# Altium footprint library mb1246b.brd.PcbLib: 73 footprints (part 4 of 6)
Each footprint in its own frame and in the unit in brackets; x right, y up, seen from the top. Pads: shape width x height; smd on the part's side, far side on the other; paste and mask are expansions set on the pad; w line width, h text height; cw(c..) or ccw(c..) is an arc to the next point about the centre after c.
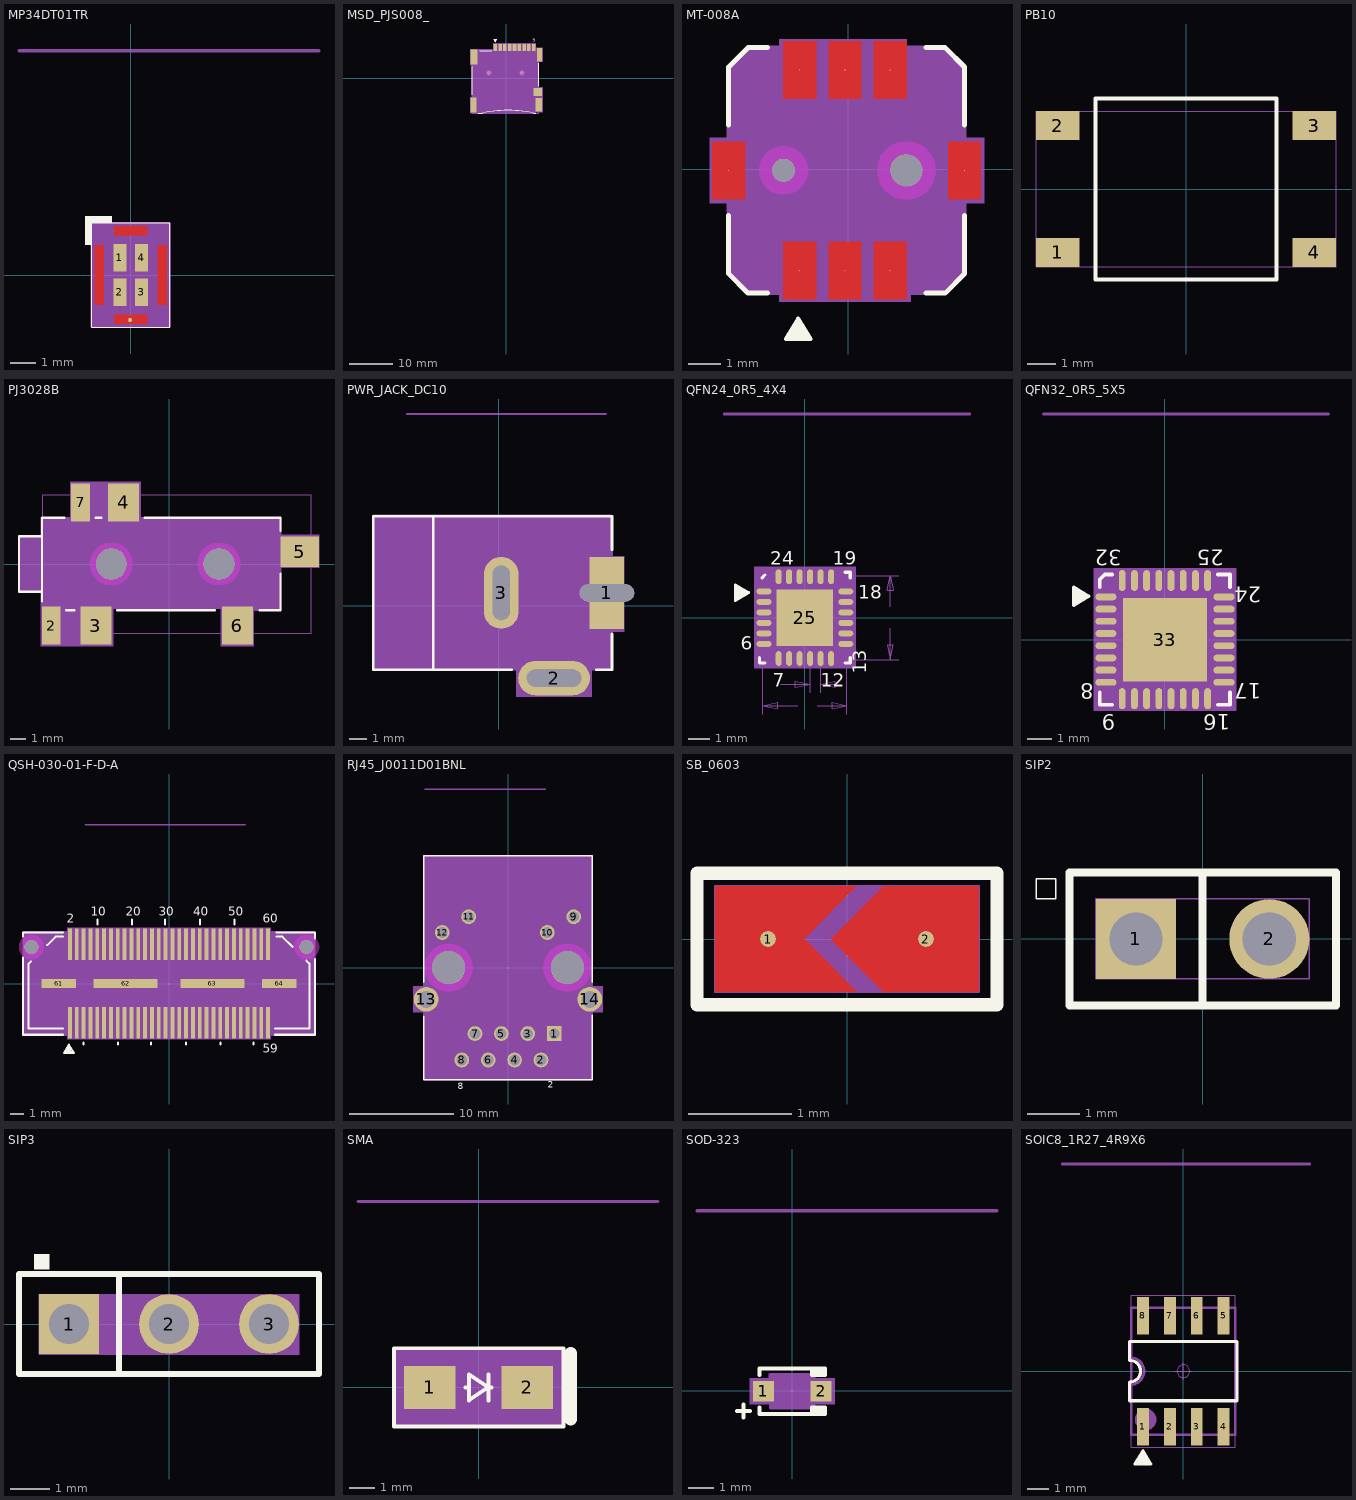
[diagram p3: the footprints below, top view; thin cyan lines are the x and y axes]

## MP34DT01TR [mil] "MP34DT01TR"
pads (5):
  rect 20x42 smd: 1(-16.97,26.73) 2(-16.97,-26.41) 3(16.49,-26.41) 4(16.49,26.73)
  round 6 smd: 5(-1.24,-68.84)
Top Layer:
  region: 40.87,45.44 40.87,-45.12 54.65,-45.12 54.65,45.44
  region: -25.83,-60.95 -25.83,-74.73 25.35,-74.73 25.35,-60.95
  region: -25.83,75.05 -25.83,61.27 25.35,61.27 25.35,75.05
  region: -55.13,45.44 -55.13,-45.12 -41.35,-45.12 -41.35,45.44
Top Overlay:
  dashed: -29.24,80.16 -29.24,90.16 -70.24,90.16 -70.24,46.16 -60.24,46.16 -60.24,80.16
  lines w1: -60.24,-79.84 59.76,-79.84 59.76,80.16 -60.24,80.16 -60.24,-79.84
  text ".Designator" at 158.76,-159.61 h35
Top Paste:
  dashed: -25.83,61.27 25.35,61.27 25.35,75.05 -25.83,75.05
  dashed: -55.13,-45.12 -41.35,-45.12 -41.35,45.44 -55.13,45.44
  dashed: 40.87,-45.12 54.65,-45.12 54.65,45.44 40.87,45.44
  dashed: -25.83,-74.73 25.35,-74.73 25.35,-60.95 -25.83,-60.95
Top Solder:
  dashed: -25.83,-74.73 25.35,-74.73 25.35,-60.95 -25.83,-60.95
  dashed: -55.13,-45.12 -41.35,-45.12 -41.35,45.44 -55.13,45.44
  dashed: 40.87,-45.12 54.65,-45.12 54.65,45.44 40.87,45.44
  dashed: -25.83,61.27 25.35,61.27 25.35,75.05 -25.83,75.05
Top 3D Body:
  region: 58.65,-78.92 58.65,78.92 -58.66,78.92 -58.66,-78.92
Top Component Center:
  circle w1: c-0.24,0.16 r11.81
  lines w1: -15.99,0.16 15.51,0.16 ; -0.24,-15.59 -0.24,15.91
Top Assembly:
  circle w20: c-46.24,67.16 r10
  lines w5: -59.3,-78.58 58.82,-78.58 58.82,78.9 -59.3,78.9 -59.3,-78.58
  text "MP34DT01TR" at 25.9,-264.42 h30
Mechanical42:
  text "4" at 21.8,8.8 h16
  text "3" at 21.8,-44.35 h16
  text "2" at -11.67,-44.35 h16
  text "1" at -11.67,8.8 h16
  text "5" at -1.24,-75.24 h16
Mechanical44:
  lines w5: -171.66,343.85 288.34,343.85
  text "Sofer Lib Information" at -171.66,353.85 h25
  text "Ref PN: MP34DT01TR" at -141.66,303.85 h25
  text "Creat : Yuki" at -141.66,263.85 h25
  text "Date  : 2012-07-31" at -141.66,223.85 h25
  text "Rev   : A1" at -141.66,183.85 h25
  text "Remark: D031-006A1" at -141.66,143.85 h25
Mechanical45:
  text "MP34DT01TR" at 20.47,-269.86 h30
Mechanical46:
  text "NO" at 7.68,-42.13 h35
3D body: height 150, standoff 0, extent -58.66,-78.92 58.65,78.92

## MSD_PJS008_ [mil] "MSD_PJS008_"
pads (16):
  rect 32x63 smd: 1(-99.43,278.35) 2(-56.12,278.35) 3(-12.81,278.35) 4(30.49,278.35) 5(73.8,278.35) 6(117.11,278.35) 7(160.41,278.35) 8(203.72,278.35)
  rect 33x63 smd: 9(249,278.35)
  rect 77x75 smd: 10(284.43,-123.23)
  rect 60x121 smd: 11(293.29,-239.37)
  rect 55x135 smd: 12(-295.43,-239.65)
  rect 63x138 smd: 13(-291.36,193.7)
  rect 47x122 smd: 14(299.19,213.39)
  round 28 hole 28 unplated: ""(-157.5,50) ""(139.74,50)
Top Overlay:
  lines w5: -99.5,341.5 -104.5,341.5 -100.5,335.5 -94.5,344.5 -105.5,344.5 -107.5,347.5 -92.5,347.5 -90.5,351.5 -110.5,351.5 -110.5,355.5 -115.5,355.5 ; -115.5,355.5 -100.5,330.5 -85.5,355.5 -115.5,355.5
  lines w6: -307.5,-150 -307.5,110 ; -252.5,-315 -212.5,-315 cw(c15,-1322.5) 242.5,-315 267.5,-315 ; -242.5,249.8 -132.7,249.8 ; 292.5,-70 292.5,135
  text "9" at 237.5,330 h25
Top 3D Body:
  region: -327.5,-315 267.5,-315 267.5,-305 327.5,-305 327.5,-80 292.5,-80 292.5,150 327.5,150 327.5,275 267.5,275 267.5,315 -117.5,315 -117.5,265 -327.5,265 -327.5,120 -307.5,120 -307.5,-170 -327.5,-170
Top Component Center:
  circle w1: c-157.5,50 r11.81
  lines w1: -173.25,50 -141.75,50 ; -157.5,34.25 -157.5,65.75
Multi-Layer keep-out:
  region: 139.74,20.75 147.31,21.75 154.37,24.67 160.42,29.32 165.07,35.37 167.99,42.43 168.99,50 167.99,57.57 165.07,64.63 160.42,70.68 154.37,75.33 147.31,78.25 139.74,79.25 132.17,78.25 125.11,75.33 119.06,70.68 114.41,64.63 111.49,57.57 110.49,50 111.49,42.43 114.41,35.37 119.06,29.32 125.11,24.67 132.17,21.75
  region: -157.5,20.75 -149.93,21.75 -142.87,24.67 -136.82,29.32 -132.17,35.37 -129.25,42.43 -128.25,50 -129.25,57.57 -132.17,64.63 -136.82,70.68 -142.87,75.33 -149.93,78.25 -157.5,79.25 -165.07,78.25 -172.13,75.33 -178.18,70.68 -182.83,64.63 -185.75,57.57 -186.75,50 -185.75,42.43 -182.83,35.37 -178.18,29.32 -172.13,24.67 -165.07,21.75
Top Assembly:
  lines w1: -307.5,-315 -307.5,250 292.5,250 292.5,-315 -307.5,-315
  text ".Designator" at 2.5,24 h40
Mechanical42:
  text "9" at 249,284.75 h16
  text "6" at 117.11,284.75 h16
  text "14" at 299.19,226.19 h16
  text "11" at 293.29,-226.57 h16
  text "13" at -291.36,206.5 h16
  text "12" at -295.43,-226.85 h16
  text "4" at 30.49,284.75 h16
  text "5" at 73.8,284.75 h16
  text "3" at -12.81,284.75 h16
  text "8" at 203.72,284.75 h16
  text "10" at 284.43,-110.43 h16
  text "1" at -99.43,284.75 h16
  text "2" at -56.12,284.75 h16
  text "7" at 160.41,284.75 h16
3D body: height 150, standoff 0, extent -327.5,-315 327.5,315

## MT-008A [mil] "MT-008A"
pads (10):
  oct 1x1 smd rot 45: 1(-58.87,-123.3) 2(-3.75,-123.29) 3(51.37,-123.3) 4(51.37,120.81) 5(-3.75,120.8) 6(-58.87,120.81) 7(-145.48,-1.24) 8(141.92,-1.24)
  round 28 hole 28 unplated: ""(-78.55,-1.24)
  round 39 hole 39 unplated: ""(71.05,-1.24)
Top Layer:
  region: 71.37,155.81 31.37,155.81 31.37,85.81 71.37,85.81
  region: 161.91,33.76 121.92,33.76 121.92,-36.25 161.91,-36.25
  region: 16.25,155.8 -23.74,155.8 -23.74,85.8 16.25,85.8
  region: -38.87,155.81 -78.86,155.81 -78.86,85.81 -38.87,85.81
  region: 71.37,-88.3 31.37,-88.3 31.37,-158.3 71.37,-158.3
  region: 16.25,-88.29 -23.74,-88.29 -23.74,-158.29 16.25,-158.29
  region: -125.48,33.76 -165.48,33.76 -165.48,-36.25 -125.48,-36.25
  region: -38.87,-88.3 -78.86,-88.3 -78.86,-158.3 -38.87,-158.3
Top Overlay:
  lines w5: -61.74,-192.74 -56.75,-192.74 -60.75,-186.74 -66.75,-195.74 -55.75,-195.74 -53.75,-198.75 -68.75,-198.75 -70.75,-202.75 -50.75,-202.75 -50.74,-206.74 -45.75,-206.74 ; -45.75,-206.74 -60.75,-181.75 -75.75,-206.74 -45.75,-206.74
  lines w6: -145.48,-56.24 -145.48,-127.22 -121.86,-150.85 -98.23,-150.85 ; -145.48,53.75 -145.48,124.73 -121.86,148.37 -98.23,148.37 ; 94.68,-150.85 118.3,-150.85 141.92,-127.23 141.92,-56.25 ; 94.68,148.37 118.3,148.37 141.92,124.74 141.92,101.12 141.92,53.76
  text ".Designator" at -115.41,-233.56 h35
Top Paste:
  region: 71.37,155.81 31.37,155.81 31.37,85.81 71.37,85.81
  region: 161.91,33.76 121.92,33.76 121.92,-36.25 161.91,-36.25
  region: 16.25,155.8 -23.74,155.8 -23.74,85.8 16.25,85.8
  region: -38.87,155.81 -78.86,155.81 -78.86,85.81 -38.87,85.81
  region: 71.37,-88.3 31.37,-88.3 31.37,-158.3 71.37,-158.3
  region: 16.25,-88.29 -23.74,-88.29 -23.74,-158.29 16.25,-158.29
  region: -125.48,33.76 -165.48,33.76 -165.48,-36.25 -125.48,-36.25
  region: -38.87,-88.3 -78.86,-88.3 -78.86,-158.3 -38.87,-158.3
Top Solder:
  region: 74.37,158.81 28.38,158.81 28.38,82.81 74.37,82.81
  region: 164.91,36.76 118.92,36.76 118.92,-39.24 164.91,-39.24
  region: 19.25,158.8 -26.74,158.8 -26.74,82.8 19.25,82.8
  region: -35.87,158.81 -81.86,158.81 -81.86,82.81 -35.87,82.81
  region: 74.37,-85.3 28.38,-85.3 28.38,-161.3 74.37,-161.3
  region: 19.25,-85.29 -26.74,-85.29 -26.74,-161.29 19.25,-161.29
  region: -122.48,36.76 -168.48,36.76 -168.48,-39.24 -122.48,-39.24
  region: -35.87,-85.3 -81.86,-85.3 -81.86,-161.3 -35.87,-161.3
Top 3D Body:
  region: -83.75,-161.25 76.25,-161.25 76.25,-151.24 116.26,-151.24 141.25,-126.25 141.25,-41.24 166.25,-41.25 166.25,38.76 141.25,38.75 141.25,128.75 121.25,148.75 71.26,148.75 71.26,158.75 -83.75,158.76 -83.74,148.75 -118.74,148.75 -143.75,123.75 -143.75,38.76 -168.75,38.76 -168.75,-41.25 -143.75,-41.25 -143.75,-126.24 -118.74,-151.24 -83.74,-151.24
Multi-Layer keep-out:
  region: -57.49,19.81 -63.66,24.54 -70.84,27.52 -78.55,28.53 -86.26,27.52 -93.44,24.54 -99.61,19.81 -104.34,13.64 -107.31,6.46 -108.33,-1.24 -107.31,-8.95 -104.34,-16.13 -99.61,-22.3 -93.44,-27.03 -86.26,-30.01 -78.55,-31.02 -70.84,-30.01 -63.66,-27.03 -57.49,-22.3 -52.76,-16.13 -49.79,-8.95 -48.77,-1.24 -49.79,6.46 -52.76,13.64
  region: 96.33,24.03 88.93,29.71 80.31,33.28 71.06,34.5 61.8,33.28 53.18,29.71 45.78,24.03 40.1,16.63 36.53,8.01 35.31,-1.24 36.53,-10.5 40.1,-19.12 45.78,-26.52 53.18,-32.2 61.8,-35.77 71.06,-36.99 80.31,-35.77 88.93,-32.2 96.33,-26.52 102.01,-19.12 105.58,-10.5 106.8,-1.24 105.58,8.01 102.01,16.63
Top Assembly:
  circle w20: c-58.75,-121.24 r10
  lines w5: -145.48,53.75 -145.48,124.73 ; -98.23,148.37 -121.86,148.37 ; 94.68,-150.85 118.3,-150.85 ; -145.48,124.73 -145.48,-127.22 -121.86,-150.85 118.3,-150.85 ; -145.48,124.73 -121.86,148.37 ; -121.86,148.37 118.3,148.37 141.92,124.74 141.92,101.12 141.92,-127.23 118.3,-150.85
Mechanical42:
  text "7" at -152.16,-7.93 h23.62
  text "5" at -10.43,114.12 h23.62
  text "8" at 135.24,-7.93 h23.62
  text "2" at -10.43,-129.97 h23.62
  text "3" at 44.69,-129.98 h23.62
  text "1" at -65.55,-129.98 h23.62
  text "4" at 44.69,114.13 h23.62
  text "6" at -65.55,114.13 h23.62
3D body: height 150, standoff 0, extent -168.75,-161.25 166.25,158.76

## PB10 [mil] "PB10"
pads (4):
  rect 60x40 smd: 1(-177.17,-87.5) 2(-177.17,87.5) 3(177.17,87.5) 4(177.17,-87.5)
Top Overlay:
  lines w6: -125,-125 125,-125 125,125 -125,125 -125,-125
Top 3D Body:
  lines w1: -207.17,-107.5 -207.17,107.5 207.17,107.5 207.17,-107.5 -207.17,-107.5
Top Assembly:
  lines w1: -207.17,-107.5 -207.17,107.5 207.17,107.5 207.17,-107.5 -207.17,-107.5
  text ".Designator" at -207.17,186 h60
Mechanical42:
  text "3" at 170.77,87.5 h16
  text "2" at -183.57,87.5 h16
  text "4" at 170.77,-87.5 h16
  text "1" at -183.57,-87.5 h16

## PJ3028B [mil] "PJ3028B"
pads (8):
  rect 48x98 smd: 2(-301.79,-157.48) 7(-226.99,157.48)
  rect 79x98 smd: 3(-187.62,-157.48) 4(-116.75,157.48) 6(174.58,-157.48)
  rect 98x79 smd: 5(334.03,31.5)
  round 79 hole 79 unplated: ""(-148.25,0) ""(127.34,0)
Top Overlay:
  lines w6: -325.42,-95 -325.42,118.11 -268.25,118.11 ; -325.42,-70.87 -384.47,-70.87 -384.47,70.87 -325.42,70.87 ; -263.25,-118.11 -243.25,-118.11 ; -188.25,118.11 -173.25,118.11 ; -133.25,-118.11 116.75,-118.11 ; -63.25,118.11 284.82,118.11 284.82,85 ; 231.75,-118.11 284.82,-118.11 284.82,-25
Top 3D Body:
  region: -328.25,-210 -143.25,-210 -143.25,-115 131.75,-115 131.75,-210 216.75,-210 216.75,-120 286.75,-120 286.75,-10 383.25,-10 383.25,75 286.75,75 286.75,120 -73.25,120 -73.25,210 -253.25,210 -253.25,120 -328.25,120 -328.25,70 -383.25,70 -383.25,-70 -328.25,-70
Top Component Center:
  circle w1: c-148.25,0 r11.81
  lines w1: -164,0 -132.5,0 ; -148.25,-15.75 -148.25,15.75
Multi-Layer keep-out:
  region: 72.54,0 74.41,-14.18 79.88,-27.4 88.59,-38.75 99.94,-47.46 113.16,-52.93 127.34,-54.8 141.52,-52.93 154.74,-47.46 166.09,-38.75 174.8,-27.4 180.27,-14.18 182.14,0 180.27,14.18 174.8,27.4 166.09,38.75 154.74,47.46 141.52,52.93 127.34,54.8 113.16,52.93 99.94,47.46 88.59,38.75 79.88,27.4 74.41,14.18
  region: -203.05,0 -201.18,-14.18 -195.71,-27.4 -187,-38.75 -175.65,-47.46 -162.43,-52.93 -148.25,-54.8 -134.07,-52.93 -120.85,-47.46 -109.5,-38.75 -100.79,-27.4 -95.32,-14.18 -93.45,0 -95.32,14.18 -100.79,27.4 -109.5,38.75 -120.85,47.46 -134.07,52.93 -148.25,54.8 -162.43,52.93 -175.65,47.46 -187,38.75 -195.71,27.4 -201.18,14.18
Top Assembly:
  lines w1: -323.25,-177.17 -323.25,177.17 363.56,177.17 363.56,-177.17 -323.25,-177.17
  text ".Designator" at 55.75,-10 h40
Mechanical42:
  text "3" at -181.22,-157.48 h16
  text "5" at 340.43,31.5 h16
  text "7" at -220.59,157.48 h16
  text "4" at -110.35,157.48 h16
  text "6" at 180.98,-157.48 h16
  text "2" at -295.39,-157.48 h16
3D body: height 150, standoff 0, extent -383.25,-210 383.25,210

## PWR_JACK_DC10 [mil] "PWR_JACK_DC10"
pads (3):
  rect 80x166 / inner oval 80x166 / far side rect 80x166 hole 40 slot 126 at 0 deg: 1(250,30)
  oval 166x80 hole 40 slot 126 at 0 deg: 2(127.95,-166.85)
  oval 80x166 hole 126 slot 40 at 0 deg: 3(5.91,30)
Top Overlay:
  lines w6: -151.57,-145 -151.57,205 ; 30,-147.17 -289.37,-147.17 -289.37,207.17 261.81,207.17 261.81,130 ; 225,-147.17 261.81,-147.17 261.81,-65
Top 3D Body:
  region: 260,210 -290,210 -290,-145 40,-145 40,-210 215,-210 215,-145 260,-145 260,-60 290,-60 290,115 260,115
Top Component Center:
  circle w1: c250,30 r11.81
  lines w1: 234.25,30 265.75,30 ; 250,14.25 250,45.75
Top Assembly:
  circle w20: c250,30 r10
  lines w5: -289.37,-147.17 -289.37,207.17 261.81,207.17 261.81,-147.17 -289.37,-147.17
  text ".Designator" at 66,6.67 h40
  text "DC-10B" at -182,-260 h30
Mechanical42:
  text "3" at -0.49,30 h16
  text "2" at 121.55,-166.85 h16
  text "1" at 243.6,30 h16
Mechanical44:
  lines w5: -211.75,443.26 248.25,443.26
  text "Sofer Lib Information" at -211.75,453.26 h25
  text "Ref PN: DC10" at -181.75,403.26 h25
  text "Creat : Yuki" at -181.75,363.26 h25
  text "Date  : 2011-10-20" at -181.75,323.26 h25
  text "Rev   : A1" at -181.75,283.26 h25
  text "Remark: D031-005A1" at -179,246.67 h25
Mechanical45:
  text "PWR_JACK_DC10" at -241,-270 h30
3D body: height 150, standoff 0, extent -290,-210 290,210

## QFN24_0R5_4X4 [mil] "QFN24_0R5_4X4"
pads (25):
  oval 28x11 smd: 1(-76.77,49.21) 2(-76.77,29.53) 3(-76.77,9.84) 4(-76.77,-9.84) 5(-76.77,-29.53) 6(-76.77,-49.21) 13(76.77,-49.21) 14(76.77,-29.53) 15(76.77,-9.84) 16(76.77,9.84) 17(76.77,29.53) 18(76.77,49.21)
  oval 11x28 smd: 7(-49.21,-76.77) 8(-29.53,-76.77) 9(-9.84,-76.77) 10(9.84,-76.77) 11(29.53,-76.77) 12(49.21,-76.77) 19(49.21,76.77) 20(29.53,76.77) 21(9.84,76.77) 22(-9.84,76.77) 23(-29.53,76.77) 24(-49.21,76.77)
  rect 106x106 smd: 25(0,0)
Top Overlay:
  lines w5: -116.5,47.99 -116.5,42.99 -110.51,47.01 -119.49,52.99 -119.49,42.01 -122.52,40 -122.52,55 -126.5,57.01 -126.5,37.01 -130.51,37.01 -130.51,32.01 ; -130.51,32.01 -130.51,62.01 -105.51,47.01 -130.51,32.01
  lines w6: -85,-75 -85,-85 -75,-85 ; -80,75 -75,80 ; 75,-85 85,-85 85,-75 ; 75,85 85,85 85,75
  text ".Designator" at -120,-127 h35
  text "24" at -65,99 h25
  text "19" at 52,99 h25
  text "18" at 100,35 h25
  text "13" at 115,-105 h25
  text "12" at 30,-130 h25
  text "7" at -60,-130 h25
  text "6" at -120,-60 h25
Top 3D Body:
  region: 95,95 95,-95 -95,-95 -95,95
Top Assembly:
  circle w20: c-55,55 r10
  lines w5: -78.74,-78.74 78.74,-78.74 78.74,78.74 -78.74,78.74 -78.74,-78.74
  text "LAN8742A-CZ-TR" at -168,-250 h30
Mechanical42:
  text "12" at 37.22,-80 h15.98
  text "11" at 17.22,-80 h15.98
  text "10" at -2.78,-80 h15.98
  text "7" at -56.39,-80 h15.98
  text "14" at 67.22,-35 h15.98
  text "4" at -81.39,-15 h15.98
  text "2" at -81.39,25 h15.98
  text "3" at -81.39,0 h15.98
  text "1" at -81.39,45 h15.98
  text "19" at 37.22,70 h15.98
  text "24" at -57.78,70 h15.98
  text "22" at -17.78,70 h15.98
  text "23" at -37.78,70 h15.98
  text "20" at 17.22,70 h15.98
  text "21" at 2.22,70 h15.98
  text "13" at 67.22,-55 h15.98
  text "5" at -81.39,-35 h15.98
  text "8" at -36.39,-80 h15.98
  text "9" at -16.39,-80 h15.98
  text "25" at -12.78,-5 h15.98
  text "6" at -86.39,-55 h15.98
  text "16" at 67.22,10 h15.98
  text "18" at 67.22,45 h15.98
  text "17" at 67.22,25 h15.98
  text "15" at 67.22,-15 h15.98
Mechanical44:
  lines w5: -151,382 309,382
  text "Sofer Lib Information" at -151,392 h25
  text "Ref PN: STMPE1600" at -121,342 h25
  text "Creat : Yuki" at -121,302 h25
  text "Date  : 2007-07-31" at -121,262 h25
  text "Rev   : A1" at -121,222 h25
  text "Remark: ***" at -121,182 h25
Mechanical45:
  text "QFN24_0R5_4X4" at -141,-245 h30
Mechanical47:
  lines w1: -78.74,-180.75 -78.74,-86.61 ; -45.28,-125 9.84,-125 ; -12.99,-165 -78.74,-165 ; 9.84,-140.75 9.84,-84.65 ; 22.99,-165 78.74,-165 ; 29.53,-140.75 29.53,-84.65 ; 70,-125 29.53,-125 ; 78.74,-180.75 78.74,-86.61 ; 86.61,-78.74 175.75,-78.74 ; 86.61,78.74 175.75,78.74 ; 160,-19.98 160,-78.74 ; 160,19.98 160,78.74 ; -78.74,-165 -51.18,-159.09 -51.18,-170.91 -78.74,-165 ; 9.84,-125 -17.72,-130.91 -17.72,-119.09 9.84,-125 ; 29.53,-125 57.09,-119.09 57.09,-130.91 29.53,-125 ; 78.74,-165 51.18,-170.91 51.18,-159.09 78.74,-165 ; 160,-78.74 154.09,-51.18 165.91,-51.18 160,-78.74 ; 160,78.74 165.91,51.18 154.09,51.18 160,78.74
  text "0.5" at 81.99,-132.99 h15.98
  text "4" at -1,-172.99 h15.98
  text "4" at 154,-7.99 h15.98
Mechanical48:
  lines w1: -78.74,-78.74 -78.74,78.74 78.74,78.74 78.74,-78.74 -78.74,-78.74
Mechanical49:
  text "Approved" at -107,-5 h35
3D body: height 150, standoff 0, extent -95,-95 95,95

## QFN32_0R5_5X5 [mil] "QFN32_0R5_5X5"
pads (33):
  oval 34x11 smd: 1(-95.28,68.9) 2(-95.28,49.21) 3(-95.28,29.53) 4(-95.28,9.84) 5(-95.28,-9.84) 6(-95.28,-29.53) 7(-95.28,-49.21) 8(-95.28,-68.9) 17(95.28,-68.9) 18(95.28,-49.21) 19(95.28,-29.53) 20(95.28,-9.84) 21(95.28,9.84) 22(95.28,29.53) 23(95.28,49.21) 24(95.28,68.9)
  oval 11x34 smd: 9(-68.9,-95.28) 10(-49.21,-95.28) 11(-29.53,-95.28) 12(-9.84,-95.28) 13(9.84,-95.28) 14(29.53,-95.28) 15(49.21,-95.28) 16(68.9,-95.28) 25(68.9,95.28) 26(49.21,95.28) 27(29.53,95.28) 28(9.84,95.28) 29(-9.84,95.28) 30(-29.53,95.28) 31(-49.21,95.28) 32(-68.9,95.28)
  rect 135x135 smd: 33(0,0)
Top Overlay:
  lines w5: -133.5,71 -133.5,66 -127.5,70 -136.5,76 -136.5,65 -139.5,63 -139.5,78 -143.5,80 -143.5,60 -147.5,60 -147.5,55 ; -147.5,55 -147.5,85 -122.5,70 -147.5,55
  lines w6: -105,-85 -105,-105 -85,-105 ; -105,85 -105,97.13 -97.13,105 -85,105 ; 85,-105 105,-105 105,-85 ; 85,105 105,105 105,85
  text "32" at -70,145 h25
  text "25" at 95,145 h25
  text "24" at 155,85 h25
  text "17" at 155,-70 h25
  text "16" at 105,-120 h25
  text "9" at -80,-120 h25
  text "8" at -115,-70 h25
Top 3D Body:
  region: -115,-115 115,-115 115,115 -115,115
Top Component Center:
  circle w1: c0,0 r11.81
  lines w1: -15.75,0 15.75,0 ; 0,-15.75 0,15.75
Top Assembly:
  circle w20: c-70,70 r10
  lines w5: -98.43,-98.43 98.43,-98.43 98.43,98.43 -98.43,98.43 -98.43,-98.43
  text "USB3320C-EZK" at 157,-202 h30
  text ".Designator" at 36,-15 h30
Mechanical42:
  text "32" at -56.1,95.28 h16
  text "17" at 108.08,-68.9 h16
  text "27" at 42.33,95.28 h16
  text "29" at 2.96,95.28 h16
  text "31" at -36.41,95.28 h16
  text "24" at 108.08,68.9 h16
  text "1" at -88.88,68.9 h16
  text "2" at -88.88,49.21 h16
  text "22" at 108.08,29.53 h16
  text "3" at -88.88,29.53 h16
  text "4" at -88.88,9.84 h16
  text "5" at -88.88,-9.84 h16
  text "6" at -88.88,-29.53 h16
  text "7" at -88.88,-49.21 h16
  text "9" at -62.5,-95.28 h16
  text "10" at -36.41,-95.28 h16
  text "13" at 22.64,-95.28 h16
  text "23" at 108.08,49.21 h16
  text "18" at 108.08,-49.21 h16
  text "19" at 108.08,-29.53 h16
  text "20" at 108.08,-9.84 h16
  text "26" at 62.01,95.28 h16
  text "16" at 81.7,-95.28 h16
  text "15" at 62.01,-95.28 h16
  text "12" at 2.96,-95.28 h16
  text "8" at -88.88,-68.9 h16
  text "11" at -16.73,-95.28 h16
  text "14" at 42.33,-95.28 h16
  text "25" at 81.7,95.28 h16
  text "28" at 22.64,95.28 h16
  text "30" at -16.73,95.28 h16
  text "33" at 12.8,0 h16
  text "21" at 108.08,9.84 h16
Mechanical44:
  lines w5: -196,364 264,364
  text "Remark: ***" at -166,164 h25
  text "Rev   : B1" at -166,204 h25
  text "Date  : 2007-12-18" at -166,244 h25
  text "Creat : Yuki" at -166,284 h25
  text "Ref PN: CDCM61002RHBT" at -166,324 h25
  text "Sofer Lib Information" at -196,374 h25
Mechanical45:
  text "QFN32_0R5_5X5" at 183,-198 h30
Mechanical48:
  lines w1: -98.43,-98.43 98.43,-98.43 98.43,98.43 -98.43,98.43 -98.43,-98.43
Mechanical49:
  text "Approved" at 112,0 h35
3D body: height 150, standoff 0, extent -115,-115 115,115

## QSH-030-01-F-D-A [mil] "QSH-030-01-F-D-A"
pads (66):
  rect 11x90 smd: 1(-285.43,-112.99) 2(-285.43,112.99) 3(-265.75,-112.99) 4(-265.75,112.99) 5(-246.06,-112.99) 6(-246.06,112.99) 7(-226.38,-112.99) 8(-226.38,112.99) 9(-206.69,-112.99) 10(-206.69,112.99) 11(-187.01,-112.99) 12(-187.01,112.99) 13(-167.32,-112.99) 14(-167.32,112.99) 15(-147.64,-112.99) 16(-147.64,112.99) 17(-127.95,-112.99) 18(-127.95,112.99) 19(-108.27,-112.99) 20(-108.27,112.99) 21(-88.58,-112.99) 22(-88.58,112.99) 23(-68.9,-112.99) 24(-68.9,112.99) 25(-49.21,-112.99) 26(-49.21,112.99) 27(-29.53,-112.99) 28(-29.53,112.99) 29(-9.84,-112.99) 30(-9.84,112.99) 31(9.84,-112.99) 32(9.84,112.99) 33(29.53,-112.99) 34(29.53,112.99) 35(49.21,-112.99) 36(49.21,112.99) 37(68.9,-112.99) 38(68.9,112.99) 39(88.58,-112.99) 40(88.58,112.99) 41(108.27,-112.99) 42(108.27,112.99) 43(127.95,-112.99) 44(127.95,112.99) 45(147.64,-112.99) 46(147.64,112.99) 47(167.32,-112.99) 48(167.32,112.99) 49(187.01,-112.99) 50(187.01,112.99) 51(206.69,-112.99) 52(206.69,112.99) 53(226.38,-112.99) 54(226.38,112.99) 55(246.06,-112.99) 56(246.06,112.99) 57(265.75,-112.99) 58(265.75,112.99) 59(285.43,-112.99) 60(285.43,112.99)
  rect 100x25 smd: 61(-317.52,0) 64(317.52,0)
  rect 185x25 smd: 62(-125,0) 63(125,0)
  round 40 hole 40 unplated: ""(-396.26,105.12) ""(396.26,105.12)
Top Overlay:
  lines w5: -289.29,-186.5 -284.29,-186.5 -288.31,-180.51 -294.29,-189.49 -283.31,-189.49 -281.3,-192.52 -296.3,-192.52 -298.31,-196.5 -278.31,-196.5 -278.31,-200.51 -273.31,-200.51 ; -273.31,-200.51 -288.31,-175.51 -303.31,-200.51 -273.31,-200.51
  lines w5.98: -246.3,-175 -246.3,-170 ; -206.3,170 -206.3,185 ; -146.3,-175 -146.3,-170 ; -106.3,170 -106.3,185 ; -51.3,-175 -51.3,-170 ; -11.3,170 -11.3,185 ; 48.7,-175 48.7,-170 ; 88.7,170 88.7,185 ; 148.7,-175 148.7,-170 ; 188.7,170 188.7,185 ; 243.7,-175 243.7,-170
  lines w6: -420,75 -420,-147.44 -305,-147.44 ; -420,135 -420,147.44 -305,147.44 ; -398.13,63.13 -405,56.26 -405,-130 -305,-130 ; -350.63,110.63 -326.26,135 -305,135 ; 305,-147.44 420,-147.44 420,70 ; 305,-130 405,-130 405,56.26 395.63,65.63 ; 310,135 326.26,135 355.63,105.63 ; 310,147.44 420,147.44 420,130
  text "50" at 170,195 h25
  text "40" at 70,195 h25
  text "30" at -30,195 h25
  text "20" at -125,195 h25
  text "10" at -225,195 h25
  text "59" at 270,-200 h25
  text "2" at -295,175 h25
  text "60" at 270,175 h25
Top 3D Body:
  region: -293,-160 293,-160 293,-150 420,-150 420,150 293,150 293,160 -293,160 -293,150 -420,150 -420,-150 -293,-150
Top Component Center:
  circle w1: c0,0 r11.81
  lines w1: -15.75,0 15.75,0 ; 0,-15.75 0,15.75
Multi-Layer keep-out:
  region: 360.52,105.12 361.74,95.87 365.31,87.25 370.99,79.85 378.39,74.17 387.01,70.6 396.26,69.38 405.51,70.6 414.13,74.17 421.53,79.85 427.21,87.25 430.78,95.87 432,105.12 430.78,114.37 427.21,122.99 421.53,130.39 414.13,136.07 405.51,139.64 396.26,140.85 387.01,139.64 378.39,136.07 370.99,130.39 365.31,122.99 361.74,114.37
  region: -432,105.12 -430.78,95.87 -427.21,87.25 -421.53,79.85 -414.13,74.17 -405.51,70.6 -396.26,69.38 -387.01,70.6 -378.39,74.17 -370.99,79.85 -365.31,87.25 -361.74,95.87 -360.52,105.12 -361.74,114.37 -365.31,122.99 -370.99,130.39 -378.39,136.07 -387.01,139.64 -396.26,140.85 -405.51,139.64 -414.13,136.07 -421.53,130.39 -427.21,122.99 -430.78,114.37
Top Assembly:
  circle w20: c-285,-105 r10
  lines w5: -420,-147.44 -420,147.44 420,147.44 420,-147.44 -420,-147.44 ; -405,-130 -405,56.26 -326.26,135 326.26,135 405,56.26 405,-130 -405,-130
  text "QSH-030-01-F-D-A" at 182,-250 h30
  text ".Designator" at 64,-10 h40
Mechanical42:
  text "57" at 278.53,-112.99 h15.98
  text "47" at 180.1,-112.99 h15.98
  text "49" at 199.79,-112.99 h15.98
  text "40" at 101.36,112.99 h15.98
  text "44" at 140.73,112.99 h15.98
  text "45" at 160.42,-112.99 h15.98
  text "1" at -279.04,-112.99 h15.98
  text "19" at -95.49,-112.99 h15.98
  text "13" at -154.54,-112.99 h15.98
  text "7" at -219.99,-112.99 h15.98
  text "62" at -112.22,0 h15.98
  text "61" at -304.74,0 h15.98
  text "63" at 137.78,0 h15.98
  text "64" at 330.3,0 h15.98
  text "6" at -239.67,112.99 h15.98
  text "18" at -115.17,112.99 h15.98
  text "12" at -174.23,112.99 h15.98
  text "36" at 61.99,112.99 h15.98
  text "60" at 298.21,112.99 h15.98
  text "59" at 298.21,-112.99 h15.98
  text "50" at 199.79,112.99 h15.98
  text "52" at 219.47,112.99 h15.98
  text "54" at 239.16,112.99 h15.98
  text "56" at 258.84,112.99 h15.98
  text "58" at 278.53,112.99 h15.98
  text "51" at 219.47,-112.99 h15.98
  text "55" at 258.84,-112.99 h15.98
  text "42" at 121.05,112.99 h15.98
  text "46" at 160.42,112.99 h15.98
  text "48" at 180.1,112.99 h15.98
  text "41" at 121.05,-112.99 h15.98
  text "43" at 140.73,-112.99 h15.98
  text "32" at 22.62,112.99 h15.98
  text "34" at 42.31,112.99 h15.98
  text "38" at 81.68,112.99 h15.98
  text "31" at 22.62,-112.99 h15.98
  text "33" at 42.31,-112.99 h15.98
  text "22" at -75.8,112.99 h15.98
  text "24" at -56.12,112.99 h15.98
  text "26" at -36.43,112.99 h15.98
  text "28" at -16.75,112.99 h15.98
  text "30" at 2.94,112.99 h15.98
  text "25" at -36.43,-112.99 h15.98
  text "20" at -95.49,112.99 h15.98
  text "2" at -279.04,112.99 h15.98
  text "4" at -259.36,112.99 h15.98
  text "53" at 239.16,-112.99 h15.98
  text "3" at -259.36,-112.99 h15.98
  text "5" at -239.67,-112.99 h15.98
  text "11" at -174.23,-112.99 h15.98
  text "9" at -200.3,-112.99 h15.98
  text "17" at -115.17,-112.99 h15.98
  text "15" at -134.86,-112.99 h15.98
  text "37" at 81.68,-112.99 h15.98
  text "35" at 61.99,-112.99 h15.98
  text "39" at 101.36,-112.99 h15.98
  text "21" at -75.8,-112.99 h15.98
  text "23" at -56.12,-112.99 h15.98
  text "27" at -16.75,-112.99 h15.98
  text "29" at 2.94,-112.99 h15.98
  text "8" at -219.99,112.99 h15.98
  text "10" at -193.91,112.99 h15.98
  text "14" at -154.54,112.99 h15.98
  text "16" at -134.86,112.99 h15.98
Mechanical44:
  lines w5: -241,457 219,457
  text "Remark: D031-013A1" at -211,257 h25
  text "Rev   : A1" at -211,297 h25
  text "Date  : 2014-08-05" at -211,337 h25
  text "Creat : Ziv" at -211,377 h25
  text "Ref PN: QSH-030-01-F-D-A" at -211,417 h25
  text "Sofer Lib Information" at -241,467 h25
Mechanical45:
  text "QSH-030-01-F-D-A" at 192,-250 h30
3D body: height 150, standoff 0, extent -420,-160 420,160

## RJ45_J0011D01BNL [mil] "RJ45_J0011D01BNL"
pads (16):
  rect 56x56 / inner round 56 / far side rect 56x56 hole 40: 1(175,-249.92)
  round 56 hole 40: 2(125,-349.92) 3(75,-249.92) 4(25,-349.92) 5(-25,-249.92) 6(-75,-349.92) 7(-125,-249.92) 8(-175,-349.92) 9(249.02,192.99) 10(149.02,133.15) 11(-149.02,192.99) 12(-249.02,133.15)
  round 94 hole 64: 13(-310.04,-120) 14(310.04,-120)
  round 125 hole 125 unplated: ""(-225,0.08) ""(225,0.08)
Top Layer keep-out:
  region: 315.99,0.08 314.24,17.83 309.06,34.9 300.65,50.63 289.34,64.42 275.55,75.73 259.82,84.14 242.75,89.32 225,91.07 207.25,89.32 190.18,84.14 179.7,78.54 174.45,75.73 160.66,64.42 149.35,50.63 140.94,34.9 135.76,17.83 134.01,0.08 135.76,-17.67 140.94,-34.74 149.35,-50.47 160.66,-64.26 174.45,-75.57 179.7,-78.38 190.18,-83.98 207.25,-89.16 225,-90.91 242.75,-89.16 259.82,-83.98 275.55,-75.57 289.34,-64.26 300.65,-50.47 309.06,-34.74 314.24,-17.67
  region: -134.01,0.08 -135.76,17.83 -140.94,34.9 -149.35,50.63 -160.66,64.42 -174.45,75.73 -190.18,84.14 -207.25,89.32 -225,91.07 -242.75,89.32 -259.82,84.14 -270.3,78.54 -275.55,75.73 -289.34,64.42 -300.65,50.63 -309.06,34.9 -314.24,17.83 -315.99,0.08 -314.24,-17.67 -309.06,-34.74 -300.65,-50.47 -289.34,-64.26 -275.55,-75.57 -270.3,-78.38 -259.82,-83.98 -242.75,-89.16 -225,-90.91 -207.25,-89.16 -190.18,-83.98 -174.45,-75.57 -160.66,-64.26 -149.35,-50.47 -140.94,-34.74 -135.76,-17.67
Top Overlay:
  lines w6: -320.08,-184.92 -320.08,-425.12 320.08,-425.12 320.08,-179.92 ; -320.08,-54.92 -320.08,424.88 320.08,424.88 320.08,-54.92
  text "8" at -190,-459.92 h25
  text "2" at 150,-455.92 h25
  text ".Designator" at 375,-309.92 h35
Top 3D Body:
  region: 320,424.92 -320,424.92 -320,-69.92 -360,-69.92 -360,-169.92 -320,-169.92 -320,-424.92 320,-424.92 320,-169.92 360,-169.92 360,-69.92 320,-69.92
Top Component Center:
  circle w1: c175,-249.92 r11.81
  lines w1: 159.25,-249.92 190.75,-249.92 ; 175,-265.67 175,-234.17
Top Assembly:
  circle w20: c175,-249.92 r10
  lines w1: -319.06,309.92 319.06,309.92
  lines w5: -320.08,-425.12 -320.08,424.88 320.08,424.88 320.08,-425.12 -320.08,-425.12
  text "J0011D21B" at -233,-519.92 h30
Mechanical42:
  text "14" at 297.24,-125 h16
  text "13" at -322.84,-125 h16
  text "8" at -181.4,-354.92 h16
  text "7" at -131.4,-254.92 h16
  text "1" at 168.6,-254.92 h16
  text "2" at 118.6,-354.92 h16
  text "3" at 68.6,-254.92 h16
  text "6" at -81.4,-354.92 h16
  text "4" at 18.6,-354.92 h16
  text "5" at -31.4,-254.92 h16
  text "9" at 242.62,187.99 h16
  text "10" at 136.22,128.15 h16
  text "11" at -161.82,187.99 h16
  text "12" at -261.82,128.15 h16
Mechanical44:
  lines w5: -316,677.08 144,677.08
  text "Sofer Lib Information" at -316,687.08 h25
  text "Ref PN: ***" at -286,637.08 h25
  text "Creat : Sofer Tech" at -286,597.08 h25
  text "Date  : 2009-05-15" at -286,557.08 h25
  text "Rev   : A1" at -286,517.08 h25
  text "Remark: ***" at -286,477.08 h25
Mechanical45:
  text "RJ45_J0011D01BNL" at -282,-519.92 h30
Mechanical46:
  text "NO" at -48,-4.92 h35
3D body: height 150, standoff 0, extent -360,-424.92 360,424.92

## SB_0603 [mil] "SB_0603"
pads (2):
  round 6 smd: 1(-30,0) 2(30,0)
Top Layer:
  region: 50,20 50,-20 13.75,-20 -6.25,0 13.75,20
  region: -50,-20 3.75,-20 -10.75,-5.5 -16.32,0.08 3.6,20 -50,20
Top Overlay:
  lines w5: -57,-25 -57,25 57,25 57,-25 -57,-25
Top Paste:
  dashed: 50,20 50,-20 13.75,-20 -6.25,0 13.75,20
  dashed: -50,-20 3.75,-20 -10.75,-5.5 -16.32,0.08 3.6,20 -50,20
Top Solder:
  dashed: 50,20 50,-20 13.75,-20 -6.25,0 13.75,20
  dashed: -50,-20 3.75,-20 -10.75,-5.5 -16.32,0.08 3.6,20 -50,20
Top Courtyard:
  dashed: -50,-20 50,-20 50,20 -50,20
Top 3D Body:
  region: -50,-20 50,-20 50,20 -50,20
Top Component Center:
  circle w1: c0,0 r11.81
  lines w1: -15.75,0 15.75,0 ; 0,-15.75 0,15.75
Top Assembly:
  lines w1: -50,-20 -50,20 -30,20 50,20 50,-20 -50,-20
  text ".Designator" at 4.8,-49.47 h25
Mechanical42:
  text "1" at -27,-19.73 h16
  text "2" at 27,-19.73 h16
Mechanical48:
  lines w1: -35,-20 -35,20 35,20 35,-20 -35,-20
3D body: height 150, standoff 0, extent -50,-20 50,20

## SIP2 [mil] "SIP2"
pads (2):
  rect 60x60 / inner round 60 / far side rect 60x60 hole 40: 1(-50,0)
  round 60 hole 40: 2(50,0)
Top Overlay:
  lines w1: -125,30 -125,45 -110,45 -110,30 -125,30
  lines w6: 0.04,-50.04 0.04,49.96 ; -99.96,-50.04 100.04,-50.04 100.04,49.96 -99.96,49.96 -99.96,-50.04
Top 3D Body:
  lines w1: -80,-30 -80,30 80,30 80,-30 -80,-30
Top Assembly:
  lines w1: -80,-30 -80,30 80,30 80,-30 -80,-30
  text ".Designator" at -102.96,110.96 h60
Mechanical42:
  text "1" at -60,0 h25
  text "2" at 40,0 h25

## SIP3 [mil] "SIP3"
pads (3):
  rect 60x60 / inner round 60 / far side rect 60x60 hole 40: 1(-100,0)
  round 60 hole 40: 2(0,0) 3(100,0)
Top Overlay:
  dashed: -135,55 -120,55 -120,70 -135,70
  lines w6: -50,-50 -50,50 ; -150,-50 -150,50 150,50 150,-50 -150,-50
Top 3D Body:
  region: -130,-30 130,-30 130,30 -130,30
Top Assembly:
  lines w1: -130,-30 -130,30 130,30 130,-30 -130,-30
  text ".Designator" at -175,111 h60
Mechanical42:
  text "3" at 100,-10 h25
  text "1" at -100,-10 h25
  text "2" at 0,-10 h25
3D body: height 150, standoff 0, extent -130,-30 130,30

## SMA [mil] "SMA"
pads (2):
  rect 79x66 smd: 1(-74.8,0) 2(74.8,0)
Top Overlay:
  lines w6: -20,0 -15,0 ; 15,-20 15,20 ; 20,0 15,0 ; 15,0 -15,20 -15,-20 15,0 ; -130,-60 -130,60 -120,60 130,60 130,-60 -130,-60
  lines w19.69: 141.17,-48.28 141.17,51.72
Top 3D Body:
  region: -130,-60 130,-60 130,60 -130,60
Top Component Center:
  circle w1: c0,0 r11.81
  lines w1: -15.75,0 15.75,0 ; 0,-15.75 0,15.75
Top Assembly:
  dashed: 65,55 65,-55 90,-55 90,55
  lines w5: -87.56,-30 -102.56,-30 -102.56,30 -87.56,30 ; 87.56,-30 102.56,-30 102.56,30 87.56,30 ; -87.56,-55 -87.56,55 87.56,55 87.56,-55 -87.56,-55
  text ".Designator" at -25,-10 h30
  text "SMAJ5.0A-TR" at -132,-15 h30
Mechanical42:
  text "2" at 68.4,0 h16
  text "1" at -81.2,0 h16
Mechanical44:
  lines w5: -185,285 275,285
  text "Creat : Jacky" at -155,205 h25
  text "Sofer Lib Information" at -185,295 h25
  text "Ref PN: DO-214AC(SMA)" at -155,245 h25
  text "Date  : 2007-09-09" at -155,165 h25
  text "Rev   : A1" at -155,125 h25
  text "Remark: Same as DO-214AC" at -155,85 h25
Mechanical45:
  text "SMA" at -96,-105 h30
Mechanical49:
  text "Approved" at -110,-11 h35
3D body: height 150, standoff 0, extent -130,-60 130,60

## SOD-323 [mil] "SOD-323"
pads (2):
  rect 32x32 smd: 1(-44.29,-1) 2(44.29,-1)
Top Overlay:
  lines w6: -85,-31 -65,-31 ; -75,-41 -75,-21 ; -50,-26 -50,-36 50,-36 ; -50,24 -50,34 50,34 ; 50,-31 35,-31 35,-26 50,-26 ; 50,29 35,29 35,24 50,24 ; 50,-36 50,-26 ; 50,-36 30,-36 30,-26 50,-26 ; 50,-36 50,-26 ; 50,24 50,34 ; 50,24 30,24 30,34 50,34 ; 50,24 50,34
Top 3D Body:
  region: 34,-26 34,-21 65,-21 65,19 34,19 34,26 -36,26 -36,19 -65,19 -65,-21 -35,-21 -35,-26
Top Component Center:
  circle w1: c0,-1 r11.81
  lines w1: -15.75,-1 15.75,-1 ; 0,-16.75 0,14.75
Top Assembly:
  dashed: 15,24 15,-26 30,-26 30,24
  lines w5: -49.21,-6.91 -33.46,-6.91 -33.46,-26.59 33.46,-26.59 33.46,-6.91 49.21,-6.91 49.21,4.91 33.46,4.91 33.46,24.59 -33.46,24.59 -33.46,4.91 -49.21,4.91 -49.21,-6.91
  text ".Designator" at 23,-17.67 h35
  text "BAT60JFILM" at 110,-86 h30
Mechanical42:
  text "2" at 50.69,-1 h16
  text "1" at -37.89,-1 h16
Mechanical44:
  lines w5: -146,276 314,276
  text "Sofer Lib Information" at -146,286 h25
  text "Ref PN: ***" at -116,236 h25
  text "Creat : Sofer Tech" at -116,196 h25
  text "Date  : 2007-11-28" at -116,156 h25
  text "Rev   : B1" at -116,116 h25
  text "Remark: ***" at -116,76 h25
Mechanical45:
  text "SOD-323" at 89,-86 h30
Mechanical49:
  text "Approved" at 102,-11 h35
3D body: height 150, standoff 0, extent -65,-26 65,26

## SOIC8_1R27_4R9X6 [mil] "SOIC8_1R27_4R9X6"
pads (8):
  rect 22x70 smd: 1(-75,-103.3) 2(-25,-103.3) 3(25,-103.3) 4(75,-103.3) 5(75,103.3) 6(25,103.3) 7(-25,103.3) 8(-75,103.3)
Top Overlay:
  lines w5: -76,-158.5 -71,-158.5 -75,-152.5 -81,-161.5 -70,-161.5 -68,-164.5 -83,-164.5 -85,-168.5 -65,-168.5 -65,-172.5 -60,-172.5 ; -60,-172.5 -90,-172.5 -75,-147.5 -60,-172.5
  lines w6: -100,-55 100,-55 100,55 -100,55 -100,20 cw(c-99.37,0) -100,-20 -100,-55
  text ".Designator" at 150,-35 h35
Top Courtyard:
  lines w1: -96.45,-141.3 -96.45,141.3 96.46,141.3 96.46,-141.3 -96.45,-141.3
Top 3D Body:
  lines w1: -96.45,-141.3 -96.45,141.3 96.46,141.3 96.46,-141.3 -96.45,-141.3
Top Component Center:
  circle w1: c0,0 r11.81
  lines w1: -15.75,0 15.75,0 ; 0,-15.75 0,15.75
Top Assembly:
  circle w20: c-70,-90 r10
  lines w5: -95,-25 ccw(c-98.13,0) -95,25 ; -96.46,-118.11 -96.46,118.11 96.46,118.11 96.46,-118.11 -96.46,-118.11
  text "MCP2562FD" at -20,-328 h30
Mechanical42:
  text "7" at -25,86.9 h16
  text "6" at 25,86.9 h16
  text "4" at 75,-114.7 h16
  text "1" at -75,-114.7 h16
  text "8" at -75,86.9 h16
  text "5" at 75,86.9 h16
  text "2" at -25,-114.7 h16
  text "3" at 25,-114.7 h16
Mechanical44:
  lines w5: -225,385 235,385
  text "Creat : Yuki" at -195,305 h25
  text "Sofer Lib Information" at -225,395 h25
  text "Ref PN: AD820BR" at -195,345 h25
  text "Date  : 2011-01-14" at -195,265 h25
  text "Rev   : C1" at -195,225 h25
  text "Remark: ADD INSIDE PAD LENGTH" at -195,185 h25
Mechanical45:
  text "SOIC8_1R27_4R9X6" at -15,-402 h30
Mechanical48:
  lines w1: -96.46,-118.11 96.46,-118.11 96.46,118.11 -96.46,118.11 -96.46,-118.11
Mechanical49:
  text "Approved" at 5,-117 h35